# Altium schematic symbol library WWUEE_SchematicLibrary.SchLib: 52 symbols
Pins are listed as number, name and electrical type; pins without a type are passive.

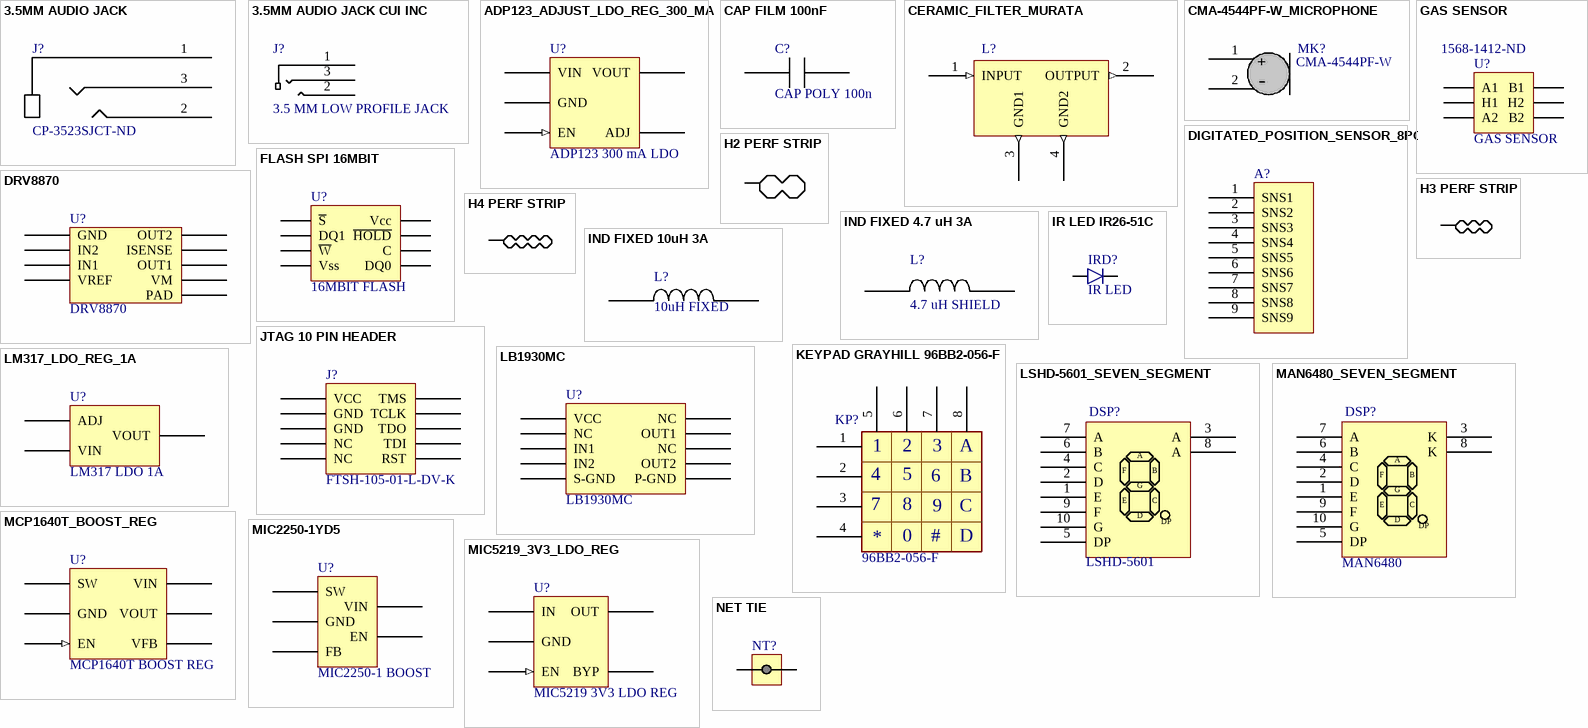
[diagram p0: symbols 3.5MM AUDIO JACK to NET TIE]

## 3.5MM AUDIO JACK
designator J?  Supplier Part Number 1: CP-3523SJCT-ND  (hidden comment: *)
SJ-3523 Surface Mount SMD 3.5mm audio jack; Supplier 1: Digi-Key
footprint SJ-3523 (3.5mm AUDIO JACK CONNECTOR)
pins: 1, 2, 3

## 3.5MM AUDIO JACK CUI INC
designator J?, comment 3.5 MM LOW PROFILE JACK
Low-profile 3.5mm jack; Supplier 1: Digi-Key; Supplier Part Number 1: CP1-3513SJCT-ND
footprint CUI 3.5mm PLUG (CP1-3513SJCT-ND)
pins: 1, 2, 3

## ADP123_ADJUST_LDO_REG_300_MA
designator U?, comment ADP123 300 mA LDO
ADP123 adjustable LDO regulator; Manufacturer: Analog Devices Inc; Manufacturer Part Number: ADP123AUJZ-R7; Regulator Topology: Positive Adjustable; Voltage - Output: 0.8 V ~ 5 V; Current - Output: 300mA; Voltage - Dropout (Typical): 0.085V @ 300mA; Number of Regulators: 1; Voltage - Input: 2.3 V ~ 5.5 V; Current - Limit (Min): 350mA; Supplier 1: Digi-Key; RoHS: RoHS Compliant; Category: Integrated Circuits (ICs); Stock 1: 6485; Pricing 1: 1=1.17, 10=1.03, 25=0.9304, 100=0.814, 250=0.71384, 500=0.63308, 1000=0.50065 (USD); Packaging: Cut Tape (CT); Operating Temperature: -40°C ~ 125°C; Mounting Type: Surface Mount; Package / Case: SOT-23-5 Thin, TSOT-23-5; Supplier Device Package: TSOT-5; ComponentLink1URL: http://www.analog.com/media/en/technical-documentation/data-sheets/ADP122_123.pdf; ComponentLink1Description: http://www.analog.com/media/en/technical-documentation/data-sheets/ADP122_123.pdf; Supplier Part Number 1: ADP123AUJZ-R7CT-ND
footprint TSOT-23 (TSOT-23 package)
pins: 1 VIN (power), 2 GND (power), 3 EN (in), 4 ADJ, 5 VOUT (power)

## CAP FILM 100nF
designator C?, comment CAP POLY 100n
CAP POLY 63V 100nF
footprint CAP FILM (5mm lead spacing film cap)
pins: 1, 2

## CERAMIC_FILTER_MURATA
designator L?, comment CFUM455G  (value not drawn)
Manufacturer: Murata; Manufacturer Part Numner: CFUM455G
footprint CERAMIC_FILTER_MURATA (CERMIC FILTER MURATA)
pins: 1 INPUT (in), 2 OUTPUT (out), 3 GND1 (out), 4 GND2 (out)
1 alternate drawing of the same symbol

## CMA-4544PF-W_MICROPHONE
designator MK?, comment CMA-4544PF-W
MIC COND ANALOG OMNI -44DB; Manufacturer: CUI Inc; Direction: Omnidirectional; Frequency Range: 20Hz ~ 20kHz; Sensitivity: -44dB ±2dB @ 94dB SPL; S/N Ratio: 60dB; Impedance: 2.2 kOhm; Voltage - Rated: 3 ~ 10V; Current - Supply: 500µA; Port Location: Top; Seal Rating: None; Shape: Circular; Supplier 1: Digi-Key; Manufacturer Part Number: CMA-4544PF-W; RoHS: RoHS Compliant; Category: Audio Products; Stock 1: 35027; Pricing 1: 1=0.96, 10=0.746, 100=0.5693, 500=0.4554, 1000=0.4048, 2500=0.33649 (USD); Packaging: Bulk; Type: Electret Condenser; Output Type: Analog; Termination: PC Pins; Size / Dimension: 9.70mm Dia; Height (Max): 4.70mm; ComponentLink1URL: http://www.cui.com/product/resource/digikeypdf/cma-4544pf-w.pdf; ComponentLink1Description: http://www.cui.com/product/resource/digikeypdf/cma-4544pf-w.pdf; Supplier Part Number 1: 102-1721-ND
footprint CMA-4544PF-W (MIC COND ANALOG OMNI -44DB)
pins: 1 POS, 2 NEG
1 alternate drawing of the same symbol
text: +; -

## DIGITATED_POSITION_SENSOR_8POS
designator A?  (no BOM)
Digitated 8 pin position sensor
footprint DIGITATED_POSITION_SENSOR_8POS (8POS DIGITATED POSITION SENSOR)
pins: 1 SNS1, 2 SNS2, 3 SNS3, 4 SNS4, 5 SNS5, 6 SNS6, 7 SNS7, 8 SNS8, 9 SNS9
1 alternate drawing of the same symbol

## DRV8870
designator U?
DRV8870 H-Bridge Driver 200 Khz PWM; Supplier 1: Digi-Key; Supplier Part Number 1: 296-42660-1-ND
footprint 8 SOIC POWER PAD (8 SOIC PowerPad for TI motor drivers)
pins: 1 GND, 2 IN2, 3 IN1, 4 VREF, 5 VM, 6 OUT1, 7 ISENSE, 8 OUT2, PAD

## FLASH SPI 16MBIT
designator U?, comment 16MBIT FLASH
16 MBIT FLASH SPI 8SOIC; Supplier 1: Digi-Key; Supplier Part Number 1: M25P16-VMN6TP CT-ND
footprint 8SOIC
pins: 1 ~{S}, 2 DQ1, 3 ~{W}, 4 Vss, 5 DQ0, 6 C, 7 ~{HOLD}, 8 Vcc

## GAS SENSOR
designator U?  Supplier Part Number 1: 1568-1412-ND
Generic Gas Sensor Footprint; Supplier 1: Digi-Key
footprint GAS SENSOR (Standard Gas Sensor Footprint)
pins: A1, A2, B1, B2, H1, H2

## H2 PERF STRIP
designator H?  (value not drawn)
footprint 2 CONTACT PERF (2 connected contacts for building breadboards)
pins: 1

## H3 PERF STRIP
designator H?  (value not drawn)
footprint 3 CONTACT PERF (3 contact conection for perf boards)
pins: 1

## H4 PERF STRIP
designator H?  (value not drawn)
footprint 4 CONTACT PERF (4 contact perf board connection)
pins: 1

## IND FIXED 4.7 uH 3A
designator L?, comment 4.7 uH SHIELD
FIXED IND 4.7UH 3A 40.3 MOHM SMD; Manufacturer: Taiyo Yuden; Manufacturer Part Number: NR6028T4R7M; Material - Core: Ferrite; Inductance: 4.7µH; Tolerance: ±20%; Current - Saturation: 2.7A; Shielding: Shielded; DC Resistance (DCR): 40.3 mOhm Max; Frequency - Test: 100kHz; Supplier 1: Digi-Key; RoHS: RoHS Compliant; Category: Inductors, Coils, Chokes; Stock 1: 65683; Pricing 1: 1=0.35, 10=0.311, 25=0.276, 50=0.2416, 100=0.2243, 250=0.207, 500=0.19666, 1000=0.1587 (USD); Packaging: Cut Tape (CT); Type: -; Current Rating: 3A; Q @ Freq: -; Frequency - Self Resonant: -; Operating Temperature: -25°C ~ 120°C; Mounting Type: Surface Mount; Package / Case: Nonstandard; Size / Dimension: 0.236" L x 0.236" W (6.00mm x 6.00mm); Height - Seated (Max): 0.110" (2.80mm); Supplier Device Package: -; ComponentLink1URL: http://ds3.yuden.co.jp/TYCOMPAS/ut/detail.do?productNo=NR6028T4R7M&fileName=NR6028T4R7M_SS&mode=specSheetDownload; ComponentLink1Description: http://ds3.yuden.co.jp/TYCOMPAS/ut/detail.do?productNo=NR6028T4R7M&fileName=NR6028T4R7M_SS&mode=specSheetDownload; Supplier Part Number 1: 587-2100-1-ND
footprint NRS6028 (Footprint for NRS6028 inductor from Yuden)
pins: 1, 2

## IND FIXED 10uH 3A
designator L?, comment 10uH FIXED
FIXED IND 10UH 3A; Supplier 1: Digi-Key; Supplier Part Number 1: 587-2001-1-ND
footprint INDUCTOR 8MM (SMT Inductor 8mm square)
pins: 1, 2

## IR LED IR26-51C
designator IRD?, comment IR LED
Side or top mount IR LED 950nm; Forward Voltage: 1.2V; Supplier 1: Digi-Key; Supplier Part Number 1: 1080-1358-1-ND
footprint IR26-51C (2SMD IR EMITTER)
pins: 1, 2

## JTAG 10 PIN HEADER
designator J?, comment FTSH-105-01-L-DV-K
10 pin 0.05" pitch header for JTAG; Supplier 1: Digi-Key; Supplier Part Number 1: FTSH-105-01-L-DV-K-TR-ND
footprint FTSH-105-01-L-DV-K (Samtec SMT 0.05" pitch header, keyed 2 rows 10 positions)
pins: 1 VCC, 2 TMS, 3 GND, 4 TCLK, 5 GND, 6 TDO, 7 NC, 8 TDI, 9 NC, 10 RST

## KEYPAD GRAYHILL 96BB2-056-F
designator KP?, comment 96BB2-056-F
KEYPAD 16 KEY BLK FRONT PNL MNT; Manufacturer: Grayhill Inc; Switch Type: Conductive Rubber; Number of Keys: 16; Matrix (Columns x Rows): 4 x 4; Output Type: Matrix; Key Type: Polymer; Legend: Telephone Format; Interchangeable Legends: No; Illumination: Non-Illuminated; Seal Rating: IP40; Supplier 1: Digi-Key; Manufacturer Part Number: 96BB2-056-F; RoHS: RoHS Compliant; Category: Switches; Stock 1: 403; Pricing 1: 1=16.6, 10=15.415, 50=13.4386, 100=11.8575, 250=11.067, 500=10.82986, 1000=10.2765 (USD); ComponentLink1URL: http://media.digikey.com/pdf/Data%20Sheets/Grayhill%20PDFs/96%20Series.pdf; ComponentLink1Description: http://media.digikey.com/pdf/Data%20Sheets/Grayhill%20PDFs/96%20Series.pdf; Supplier Part Number 1: GH5010-ND
footprint GRAYHILL_96BB2-056-F_KEYPAD (KEYPAD 16 KEY BLK FRONT PNL MNT)
pins: 1 ROW0, 2 ROW1, 3 ROW2, 4 ROW3, 5 COL0, 6 COL1, 7 COL2, 8 COL3
1 alternate drawing of the same symbol
text: A; B; 9; C; 0; #; D

## LB1930MC
designator U?
LB1930MC Low Voltage Motor Driver; Supplier 1: Arrow; Supplier Part Number 1: QGUUvdTreJWi61tHZWRPwtM2jqn8BdMCRb6Kl_RfwpM
footprint SOIC10 1MM SMT (SOIC 10 package 1mm pitch)
pins: 1 VCC (power), 2 NC, 3 IN1, 4 IN2, 5 S-GND, 6 P-GND, 7 OUT2, 8 NC, 9 OUT1, 10 NC

## LM317_LDO_REG_1A
designator U?, comment LM317 LDO 1A
LM317 REG LDO ADJ 1.5A SOT223; Manufacturer: Texas Instruments; Manufacturer Part Number: LM317DCYR; Regulator Topology: Positive Adjustable; Voltage - Output: 1.25 V ~ 37 V; Number of Regulators: 1; Voltage - Input: 4.2 V ~ 40 V; Supplier 1: Digi-Key; RoHS: RoHS Compliant; Category: Integrated Circuits (ICs); Stock 1: 97500; Pricing 1: 2500=0.27, 10000=0.26, 25000=0.25 (USD); Packaging: Tape & Reel (TR); Current - Output: 1.5A; Voltage - Dropout (Typical): -; Current - Limit (Min): -; Operating Temperature: 0°C ~ 125°C; Mounting Type: Surface Mount; Package / Case: TO-261-4, TO-261AA; Supplier Device Package: SOT-223-4; ComponentLink1URL: http://www.ti.com/lit/ds/symlink/lm317.pdf; ComponentLink1Description: http://www.ti.com/lit/ds/symlink/lm317.pdf; Supplier Part Number 1: 296-12602-2-ND
footprint SOT223-3L (Long Pad SOT 223)
pins: 1 ADJ, 2 VOUT (power), 3 VIN (power)

## LSHD-5601_SEVEN_SEGMENT
designator DSP?, comment LSHD-5601
SEVEN SEGMENT DISPLAY; Manufacturer: Lite-On Inc; Number of Characters: 1; Digit/Alpha Size: 0.56" (14.22mm); Display Type: 7-Segment; Common Pin: Common Anode; Voltage - Forward (Vf) (Typ): 2.1V; Current - Test: 20mA; Millicandela Rating: 2.4mcd; Wavelength - Peak: 565nm; Power Dissipation (Max): 75mW; Supplier 1: Digi-Key; Manufacturer Part Number: LSHD-5601; RoHS: RoHS Compliant; Category: Optoelectronics; Stock 1: 5376; Pricing 1: 1=1.17, 10=0.951, 100=0.6581, 250=0.585, 500=0.49726, 1000=0.4095, 2500=0.39 (USD); Size / Dimension: 0.673" H x 0.488" W x 0.315" D (17.10mm x 12.40mm x 8.00mm); Color: Green; Package / Case: 10-DIP (0.600", 15.24mm); ComponentLink1URL: http://media.digikey.com/pdf/Data%20Sheets/Lite-On%20PDFs/LSHD-5601.pdf; ComponentLink1Description: http://media.digikey.com/pdf/Data%20Sheets/Lite-On%20PDFs/LSHD-5601.pdf; Supplier Part Number 1: 160-1575-5-ND
footprint MAN6480_SEVEN_SEGMENT (MAN6480)
pins: 1 E, 2 D, 3 A, 4 C, 5 DP, 6 B, 7 A, 8 A, 9 F, 10 G
1 alternate drawing of the same symbol

## MAN6480_SEVEN_SEGMENT
designator DSP?, comment MAN6480
LED 7-SEG SGL CC GRN RHDP .56"; Manufacturer: Everlight Electronics Co Ltd; Number of Characters: 1; Digit/Alpha Size: 0.56" (14.22mm); Display Type: 7-Segment; Common Pin: Common Cathode; Voltage - Forward (Vf) (Typ): 2.1V; Current - Test: 20mA; Millicandela Rating: 2.2mcd; Wavelength - Peak: 565nm; Power Dissipation (Max): 600mW; Supplier 1: Digi-Key; Manufacturer Part Number: MAN6480; RoHS: RoHS Compliant; Category: Optoelectronics; Stock 1: 0; Pricing 1: 400=0.93565 (USD); Size / Dimension: 0.750" H x 0.480" W x 0.315" D (19.05mm x 12.20mm x 8.00mm); Color: Green; Package / Case: 10-DIP (0.600", 15.24mm); ComponentLink1URL: http://media.digikey.com/pdf/Data%20Sheets/Everlight%20PDFs/MAN6400%20Series.pdf; ComponentLink1Description: http://media.digikey.com/pdf/Data%20Sheets/Everlight%20PDFs/MAN6400%20Series.pdf; Supplier Part Number 1: MAN6480EL-ND
footprint MAN6480_SEVEN_SEGMENT (MAN6480)
pins: 1 E, 2 D, 3 K, 4 C, 5 DP, 6 B, 7 A, 8 K, 9 F, 10 G
1 alternate drawing of the same symbol

## MCP1640T_BOOST_REG
designator U?, comment MCP1640T BOOST REG
IC REG BST ADJ 0.1A SYNC SOT23-6; Manufacturer: Microchip Technology; Manufacturer Part Number: MCP1640T-I/CHY; Function: Step-Up; Output Configuration: Positive; Output Type: Adjustable; Number of Outputs: 1; Voltage - Input (Min): 0.8V; Voltage - Input (Max): 5.5V; Voltage - Output (Min/Fixed): 2V; Current - Output: 100mA; Frequency - Switching: 500kHz; Synchronous Rectifier: Yes; Supplier 1: Digi-Key; RoHS: RoHS Compliant; Category: Integrated Circuits (ICs); Stock 1: 11111; Pricing 1: 1=0.68, 10=0.57, 25=0.48, 100=0.44 (USD); Packaging: Cut Tape (CT); Topology: Boost; Voltage - Output (Max): 5.5V; Operating Temperature: -40°C ~ 125°C (TJ); Mounting Type: Surface Mount; Package / Case: SOT-23-6; Supplier Device Package: SOT-23-6; ComponentLink1URL: http://www.microchip.com/mymicrochip/filehandler.aspx?ddocname=en547085; ComponentLink1Description: http://www.microchip.com/mymicrochip/filehandler.aspx?ddocname=en547085; Supplier Part Number 1: MCP1640T-I/CHYCT-ND
footprint SOT-23-6 (SOT-23 6 pin standard footprint)
pins: 1 SW (power), 2 GND (power), 3 EN (in), 4 VFB, 5 VOUT (power), 6 VIN (power)

## MIC2250-1YD5
designator U?, comment MIC2250-1 BOOST
MIC2250-1 Boost Regulator 2.5Mhz; Supplier 1: Digi-Key; Supplier Part Number 1: 1611-MIC2250-1YD5-CT-ND
footprint SOT23-5 (SOT23-5 standard package)
pins: 1 SW, 2 GND, 3 FB, 4 EN, 5 VIN

## MIC5219_3V3_LDO_REG
designator U?, comment MIC5219 3V3 LDO REG
IC REG LDO 3.3V 0.5A (350 mV DROP) SOT23-5; Manufacturer: Micrel Inc; Manufacturer Part Number: MIC5219-3.3YM5 TR; Regulator Topology: Positive Fixed; Current - Output: 500mA; Voltage - Dropout (Typical): 0.35V @ 500mA; Number of Regulators: 1; Voltage - Input: Up to 12V; Supplier 1: Digi-Key; RoHS: RoHS Compliant; Category: Integrated Circuits (ICs); Stock 1: 18892; Pricing 1: 1=1.82, 10=1.642, 25=1.4708, 100=1.3224, 250=1.1742, 500=1.026, 1000=0.8493 (USD); Packaging: Cut Tape (CT); Voltage - Output: 3.3V; Current - Limit (Min): -; Operating Temperature: -40°C ~ 125°C; Mounting Type: Surface Mount; Package / Case: SC-74A, SOT-753; Supplier Device Package: SOT-23-5; ComponentLink1URL: http://www.micrel.com/_PDF/mic5219.pdf; ComponentLink1Description: http://www.micrel.com/_PDF/mic5219.pdf; Supplier Part Number 1: 576-1281-1-ND
footprint SOT23-5 (SOT23-5 standard package)
pins: 1 IN (power), 2 GND (power), 3 EN (in), 4 BYP, 5 OUT (power)

## NET TIE
designator NT?, comment NET TIE 0603  (value not drawn)  (net tie, no BOM)
footprint NetTie0603 (Net Tie in 0603 land patter)
pins: 1, 2
1 alternate drawing of the same symbol

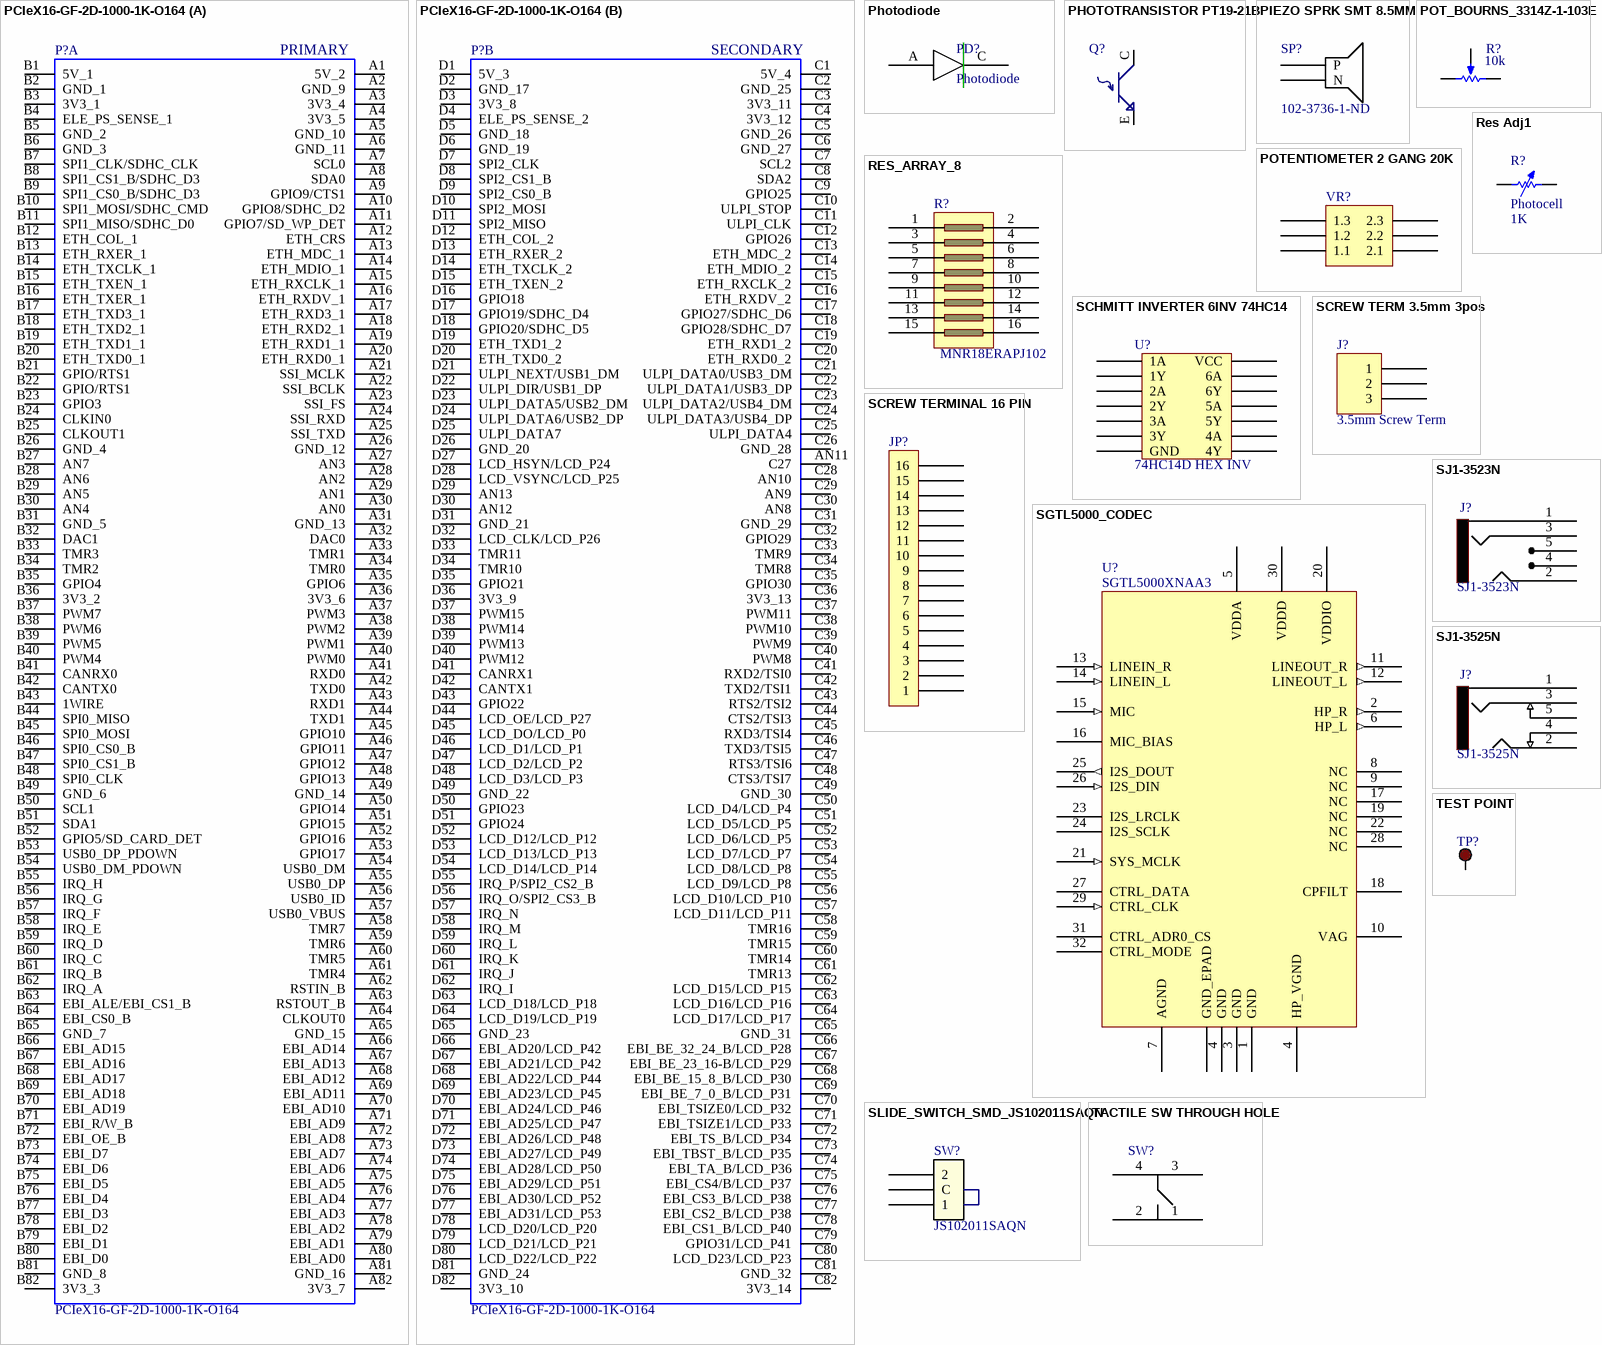
[diagram p1: symbols PCIeX16-GF-2D-1000-1K-O164 to TEST POINT]

## PCIeX16-GF-2D-1000-1K-O164
designator P?  (no BOM)
Golden finger, PCIeX16, Dual, Opposite, Pitch 1mm, 164-Position; Package Version: rev2.0, Apr-2007; Mating Connector: Molex-87715-9305; ClassName: Edge Connector; Publisher: Altium; Package Reference: GF-2D-1000-1K-O164; Datasheet Version: rev2.0, Apr-2007
footprint TowerModule-PCIeX16-GF-2D-1000-1K-O164 (Freescale Tower Module,Golden finger, PCIeX16, Dual, Opposite, Pitch 1mm, 164-Position)
part A pins: A1 5V_2, A2 GND_9, A3 3V3_4, A4 3V3_5, A5 GND_10, A6 GND_11, A7 SCL0, A8 SDA0, A9 GPIO9/CTS1, A10 GPIO8/SDHC_D2, A11 GPIO7/SD_WP_DET, A12 ETH_CRS, A13 ETH_MDC_1, A14 ETH_MDIO_1, A15 ETH_RXCLK_1, A16 ETH_RXDV_1, A17 ETH_RXD3_1, A18 ETH_RXD2_1, A19 ETH_RXD1_1, A20 ETH_RXD0_1, A21 SSI_MCLK, A22 SSI_BCLK, A23 SSI_FS, A24 SSI_RXD, A25 SSI_TXD, A26 GND_12, A27 AN3, A28 AN2, A29 AN1, A30 AN0, A31 GND_13, A32 DAC0, A33 TMR1, A34 TMR0, A35 GPIO6, A36 3V3_6, A37 PWM3, A38 PWM2, A39 PWM1, A40 PWM0, A41 RXD0, A42 TXD0, A43 RXD1, A44 TXD1, A45 GPIO10, A46 GPIO11, A47 GPIO12, A48 GPIO13, A49 GND_14, A50 GPIO14, A51 GPIO15, A52 GPIO16, A53 GPIO17, A54 USB0_DM, A55 USB0_DP, A56 USB0_ID, A57 USB0_VBUS, A58 TMR7, A59 TMR6, A60 TMR5, A61 TMR4, A62 RSTIN_B, A63 RSTOUT_B, A64 CLKOUT0, A65 GND_15, A66 EBI_AD14, A67 EBI_AD13, A68 EBI_AD12, A69 EBI_AD11, A70 EBI_AD10, A71 EBI_AD9, A72 EBI_AD8, A73 EBI_AD7, A74 EBI_AD6, A75 EBI_AD5, A76 EBI_AD4, A77 EBI_AD3, A78 EBI_AD2, A79 EBI_AD1, A80 EBI_AD0, A81 GND_16, A82 3V3_7, B1 5V_1, B2 GND_1, B3 3V3_1, B4 ELE_PS_SENSE_1, B5 GND_2, B6 GND_3, B7 SPI1_CLK/SDHC_CLK, B8 SPI1_CS1_B/SDHC_D3, B9 SPI1_CS0_B/SDHC_D3, B10 SPI1_MOSI/SDHC_CMD, B11 SPI1_MISO/SDHC_D0, B12 ETH_COL_1, B13 ETH_RXER_1, B14 ETH_TXCLK_1, B15 ETH_TXEN_1, B16 ETH_TXER_1, B17 ETH_TXD3_1, B18 ETH_TXD2_1, B19 ETH_TXD1_1, B20 ETH_TXD0_1, B21 GPIO/RTS1, B22 GPIO/RTS1, B23 GPIO3, B24 CLKIN0, B25 CLKOUT1, B26 GND_4, B27 AN7, B28 AN6, B29 AN5, B30 AN4, B31 GND_5, B32 DAC1, B33 TMR3, B34 TMR2, B35 GPIO4, B36 3V3_2, B37 PWM7, B38 PWM6, B39 PWM5, B40 PWM4, B41 CANRX0, B42 CANTX0, B43 1WIRE, B44 SPI0_MISO, B45 SPI0_MOSI, B46 SPI0_CS0_B, B47 SPI0_CS1_B, B48 SPI0_CLK, B49 GND_6, B50 SCL1, B51 SDA1, B52 GPIO5/SD_CARD_DET, B53 USB0_DP_PDOWN, B54 USB0_DM_PDOWN, B55 IRQ_H, B56 IRQ_G, B57 IRQ_F, B58 IRQ_E, B59 IRQ_D, B60 IRQ_C, B61 IRQ_B, B62 IRQ_A, B63 EBI_ALE/EBI_CS1_B, B64 EBI_CS0_B, B65 GND_7, B66 EBI_AD15, B67 EBI_AD16, B68 EBI_AD17, B69 EBI_AD18, B70 EBI_AD19, B71 EBI_R/W_B, B72 EBI_OE_B, B73 EBI_D7, B74 EBI_D6, B75 EBI_D5, B76 EBI_D4, B77 EBI_D3, B78 EBI_D2, B79 EBI_D1, B80 EBI_D0, B81 GND_8, B82 3V3_3
part B pins: AN11 C27, C1 5V_4, C2 GND_25, C3 3V3_11, C4 3V3_12, C5 GND_26, C6 GND_27, C7 SCL2, C8 SDA2, C9 GPIO25, C10 ULPI_STOP, C11 ULPI_CLK, C12 GPIO26, C13 ETH_MDC_2, C14 ETH_MDIO_2, C15 ETH_RXCLK_2, C16 ETH_RXDV_2, C17 GPIO27/SDHC_D6, C18 GPIO28/SDHC_D7, C19 ETH_RXD1_2, C20 ETH_RXD0_2, C21 ULPI_DATA0/USB3_DM, C22 ULPI_DATA1/USB3_DP, C23 ULPI_DATA2/USB4_DM, C24 ULPI_DATA3/USB4_DP, C25 ULPI_DATA4, C26 GND_28, C28 AN10, C29 AN9, C30 AN8, C31 GND_29, C32 GPIO29, C33 TMR9, C34 TMR8, C35 GPIO30, C36 3V3_13, C37 PWM11, C38 PWM10, C39 PWM9, C40 PWM8, C41 RXD2/TSI0, C42 TXD2/TSI1, C43 RTS2/TSI2, C44 CTS2/TSI3, C45 RXD3/TSI4, C46 TXD3/TSI5, C47 RTS3/TSI6, C48 CTS3/TSI7, C49 GND_30, C50 LCD_D4/LCD_P4, C51 LCD_D5/LCD_P5, C52 LCD_D6/LCD_P5, C53 LCD_D7/LCD_P7, C54 LCD_D8/LCD_P8, C55 LCD_D9/LCD_P8, C56 LCD_D10/LCD_P10, C57 LCD_D11/LCD_P11, C58 TMR16, C59 TMR15, C60 TMR14, C61 TMR13, C62 LCD_D15/LCD_P15, C63 LCD_D16/LCD_P16, C64 LCD_D17/LCD_P17, C65 GND_31, C66 EBI_BE_32_24_B/LCD_P28, C67 EBI_BE_23_16-B/LCD_P29, C68 EBI_BE_15_8_B/LCD_P30, C69 EBI_BE_7_0_B/LCD_P31, C70 EBI_TSIZE0/LCD_P32, C71 EBI_TSIZE1/LCD_P33, C72 EBI_TS_B/LCD_P34, C73 EBI_TBST_B/LCD_P35, C74 EBI_TA_B/LCD_P36, C75 EBI_CS4/B/LCD_P37, C76 EBI_CS3_B/LCD_P38, C77 EBI_CS2_B/LCD_P38, C78 EBI_CS1_B/LCD_P40, C79 GPIO31/LCD_P41, C80 LCD_D23/LCD_P23, C81 GND_32, C82 3V3_14, D1 5V_3, D2 GND_17, D3 3V3_8, D4 ELE_PS_SENSE_2, D5 GND_18, D6 GND_19, D7 SPI2_CLK, D8 SPI2_CS1_B, D9 SPI2_CS0_B, D10 SPI2_MOSI, D11 SPI2_MISO, D12 ETH_COL_2, D13 ETH_RXER_2, D14 ETH_TXCLK_2, D15 ETH_TXEN_2, D16 GPIO18, D17 GPIO19/SDHC_D4, D18 GPIO20/SDHC_D5, D19 ETH_TXD1_2, D20 ETH_TXD0_2, D21 ULPI_NEXT/USB1_DM, D22 ULPI_DIR/USB1_DP, D23 ULPI_DATA5/USB2_DM, D24 ULPI_DATA6/USB2_DP, D25 ULPI_DATA7, D26 GND_20, D27 LCD_HSYN/LCD_P24, D28 LCD_VSYNC/LCD_P25, D29 AN13, D30 AN12, D31 GND_21, D32 LCD_CLK/LCD_P26, D33 TMR11, D34 TMR10, D35 GPIO21, D36 3V3_9, D37 PWM15, D38 PWM14, D39 PWM13, D40 PWM12, D41 CANRX1, D42 CANTX1, D43 GPIO22, D44 LCD_OE/LCD_P27, D45 LCD_DO/LCD_P0, D46 LCD_D1/LCD_P1, D47 LCD_D2/LCD_P2, D48 LCD_D3/LCD_P3, D49 GND_22, D50 GPIO23, D51 GPIO24, D52 LCD_D12/LCD_P12, D53 LCD_D13/LCD_P13, D54 LCD_D14/LCD_P14, D55 IRQ_P/SPI2_CS2_B, D56 IRQ_O/SPI2_CS3_B, D57 IRQ_N, D58 IRQ_M, D59 IRQ_L, D60 IRQ_K, D61 IRQ_J, D62 IRQ_I, D63 LCD_D18/LCD_P18, D64 LCD_D19/LCD_P19, D65 GND_23, D66 EBI_AD20/LCD_P42, D67 EBI_AD21/LCD_P42, D68 EBI_AD22/LCD_P44, D69 EBI_AD23/LCD_P45, D70 EBI_AD24/LCD_P46, D71 EBI_AD25/LCD_P47, D72 EBI_AD26/LCD_P48, D73 EBI_AD27/LCD_P49, D74 EBI_AD28/LCD_P50, D75 EBI_AD29/LCD_P51, D76 EBI_AD30/LCD_P52, D77 EBI_AD31/LCD_P53, D78 LCD_D20/LCD_P20, D79 LCD_D21/LCD_P21, D80 LCD_D22/LCD_P22, D81 GND_24, D82 3V3_10
part A text: PRIMARY
part B text: SECONDARY

## Photodiode
designator PD?
Vfw: 0.8 V; Responsivity: 60 mA/W; Supplier 1: Digi-Key; Supplier Part Number 1: SD019-141-411-BCT-ND
footprint PHOTODIODE_0805 (0805 Photodiode)
pins: A, C

## PHOTOTRANSISTOR PT19-21B
designator Q?, comment PT19-21B  (value not drawn)
Phototransistor Mini 20mA; Supplier 1: Digi-Key; Supplier Part Number 1: 1080-1383-1-ND
footprint PT19-21B (Small Package Phototransistor); pin to pad C>2 E>1
pins: C 2, E 1

## PIEZO SPRK SMT 8.5MM
designator SP?  Supplier Part Number 1: 102-3736-1-ND  (hidden comment: *)
8.5mm SMT Piezo speaker 2 kHz; Supplier 1: Digi-Key
footprint CMT85-30S (8.5mm 2kHz Buzzer SMT)
pins: N, P

## POT_BOURNS_3314Z-1-103E
designator R?, comment value 10k  (hidden comment: 3314Z-1-103E)
TRIMMER 10K OHM 0.25W SMD; Manufacturer: Bourns Inc.; Power: 0.125 W; Case-Metric: 2012; Tolerance: 20 %; Case-EIA: 0805; Power (Watts): 0.25W, 1/4W; Temperature Coefficient: ±100ppm/°C; Number of Turns: Single; Adjustment Type: Side Adjustment; Resistive Material: Cermet; Technology: SMT; Supplier 1: Digi-Key; Manufacturer Part Number: 3314Z-1-103E; RoHS: RoHS Compliant; Category: Potentiometers, Variable Resistors; Stock 1: 1828; Pricing 1: 1=2.28, 10=2.006, 25=1.802, 50=1.7292, 100=1.6632 (USD); Packaging: Cut Tape (CT); Resistance (Ohms): 10k; Mounting Type: Surface Mount; Termination Style: J Lead; Size / Dimension: Square - 0.219" L x 0.197" W x 0.227" H (5.56mm x 5.01mm x 5.76mm); ComponentLink1URL: http://www.bourns.com/data/global/pdfs/3314.pdf; ComponentLink1Description: http://www.bourns.com/data/global/pdfs/3314.pdf; Supplier Part Number 1: 3314Z-103ECT-ND
footprint POT_BOURNS_3314Z-1-***E (POT TRIMMER SIDE ADJUST, 0.25W, SMD)
pins: 1 CCW, 2 WIPER, 3 CW
1 alternate drawing of the same symbol

## POTENTIOMETER 2 GANG 20K
designator VR?, comment Bournes Dual Gang  (value not drawn)
Bournes Logarithmic Dual Gang Pot 20k; Supplier 1: Digi-Key; Supplier Part Number 1: PTD902-2015F-A103-ND
footprint BOURNES PTD90 DUAL GANG POT (dual gang potentiometer, right angle, through hole, Bournes)
pins: 1.1, 1.2, 1.3, 2.1, 2.2, 2.3

## Res Adj1
designator R?, comment Photocell  value 1K
Variable Resistor; Set Position: 0.5; Published: 8-Jun-2000; LatestRevisionDate: 17-Jul-2002; LatestRevisionNote: Re-released for DXP Platform.; PackageReference: AXIAL-0.7; Publisher: Altium Limited; PackageDescription: Axial Device, Thru-Hole; 2 Leads; 0.7 in Pin Spacing
footprint Photocell
simulation model VRES (Variable Resistor)
signal-integrity model Res Adj
pins: 1, 2

## RES_ARRAY_8
designator R?, comment MNR18ERAPJ102
RES ARRAY 1K OHM 8 RES 1606; Manufacturer: Rohm Semiconductor; Tolerance: ±5%; Number of Resistors: 8; Power Per Element: 62.5mW; Temperature Coefficient: ±200ppm/°C; Supplier 1: Digi-Key; Manufacturer Part Number: MNR18ERAPJ102; RoHS: RoHS Compliant; Stock 1: 10732; Pricing 1: 1=0.21, 10=0.174, 25=0.1268, 100=0.0681, 250=0.05228, 500=0.04118, 1000=0.02851 (USD); Packaging: Digi-Reel®; Resistance (Ohms): 1k; Number of Pins: 16; Mounting Type: Surface Mount; Package / Case: 1606, Convex, Long Side Terminals; Supplier Device Package: -; Size / Dimension: 0.157" L x 0.063" W (4.00mm x 1.60mm); Height: 0.020" (0.50mm); Operating Temperature: -55°C ~ 155°C; ComponentLink1URL: http://rohmfs.rohm.com/en/products/databook/datasheet/passive/resistor/chip_resistor_network/mnr_g.pdf; ComponentLink1Description: http://rohmfs.rohm.com/en/products/databook/datasheet/passive/resistor/chip_resistor_network/mnr_g.pdf; Supplier Part Number 1: RHM1620DKR-ND
footprint MNR18ERAPJ100_RES_ARRAY (MNR18ERAPJ100 RESISTOR ARRAY)
pins: 1, 2, 3, 4, 5, 6, 7, 8, 9, 10, 11, 12, 13, 14, 15, 16
1 alternate drawing of the same symbol

## SCHMITT INVERTER 6INV 74HC14
designator U?, comment 74HC14D HEX INV
74HC14D Schmitt triggered inverter; Supplier 1: Digi-Key; Supplier Part Number 1: 568-3953-5-ND
footprint 14-SOIC (14-SOIC 74HC14)
pins: 1 1A, 2 1Y, 3 2A, 4 2Y, 5 3A, 6 3Y, 7 GND, 8 4Y, 9 4A, 10 5Y, 11 5A, 12 6Y, 13 6A, 14 VCC

## SCREW TERM 3.5mm 3pos
designator J?, comment 3.5mm Screw Term
Supplier 1: Digi-Key; Supplier Part Number 1: ED2741-ND
footprint SCREW TERM 3 PIN 3.5mm (3 pin 3.5mm screw header)
pins: 1, 2, 3

## SCREW TERMINAL 16 PIN
designator JP?, comment 16 PIN  (value not drawn)
3.5mm spacing 16 pin philips screw terminal; Supplier 1: Digi-Key; Supplier Part Number 1: ED2739-ND
footprint SCREW TERMINAL 16 PIN (On-Shore 16 pin 3.5mm screw terminal)
pins: 1, 2, 3, 4, 5, 6, 7, 8, 9, 10, 11, 12, 13, 14, 15, 16

## SGTL5000_CODEC
designator U?, comment SGTL5000XNAA3
IC AUDIO CODEC STEREO 32-QFN; Manufacturer: Freescale Semiconductor; Data Interface: I²C, Serial, SPI™; Number of ADCs / DACs: 1 / 1; Sigma Delta: No; S/N Ratio, ADCs / DACs (db) Typ: 90 / 100; Voltage - Supply, Analog: 1.62 V ~ 3.6 V; Voltage - Supply, Digital: 1.1 V ~ 2 V, 1.62 V ~ 3.6 V; Supplier 1: Digi-Key; Manufacturer Part Number: SGTL5000XNAA3; RoHS: RoHS Compliant; Category: Integrated Circuits (ICs); Stock 1: 4664; Pricing 1: 1=2.45, 10=2.312, 25=2.176, 100=1.768 (USD); Packaging: Tray; Type: Stereo Audio; Resolution (Bits): -; Dynamic Range, ADCs / DACs (db) Typ: -; Operating Temperature: -40°C ~ 85°C; Mounting Type: Surface Mount; Package / Case: 32-VFQFN Exposed Pad; Supplier Device Package: 32-QFN Exposed Pad (5x5); ComponentLink1URL: http://cache.freescale.com/files/analog/doc/data_sheet/SGTL5000.pdf; ComponentLink1Description: http://cache.freescale.com/files/analog/doc/data_sheet/SGTL5000.pdf; Supplier Part Number 1: SGTL5000XNAA3-ND
footprint QFN50P500X500X90_HS-33M (QFN, 32-Leads, Body 5.00x5.00mm, Pitch 0.50mm, Thermal Pad 3.40x3.40mm, IPC Low Density)
pins: 1 GND, 2 HP_R (out), 3 GND, 4 HP_VGND, 4 GND, 5 VDDA (power), 6 HP_L (out), 7 AGND, 8 NC, 9 NC, 10 VAG, 11 LINEOUT_R (out), 12 LINEOUT_L (out), 13 LINEIN_R (in), 14 LINEIN_L (in), 15 MIC (in), 16 MIC_BIAS, 17 NC, 18 CPFILT, 19 NC, 20 VDDIO (power), 21 SYS_MCLK (in), 22 NC, 23 I2S_LRCLK, 24 I2S_SCLK, 25 I2S_DOUT (out), 26 I2S_DIN (in), 27 CTRL_DATA, 28 NC, 29 CTRL_CLK (in), 30 VDDD (power), 31 CTRL_ADR0_CS, 32 CTRL_MODE, 33 GND_EPAD
1 alternate drawing of the same symbol

## SJ1-3523N
designator J?
CONN JACK STEREO R/A 3PIN 3.5MM; Manufacturer: CUI Inc; Connector Type: Phone Jack; Gender: Female; Plug/Mating Plug Diameter: 3.50mm (0.141", 1/8", Mini Plug) - Headphone; Number of Positions/Contacts: 3 Conductors, 3 Contacts; Internal Switch(s): Does Not Contain Switch; Shielding: Unshielded; Color - Contact: Silver; Voltage - Rated: 12VDC; Current Rating: 1A; Supplier 1: Digi-Key; Manufacturer Part Number: SJ1-3523N; RoHS: RoHS Compliant; Category: Connectors, Interconnects; Stock 1: 69695; Pricing 1: 1=0.97, 10=0.749, 100=0.5715, 500=0.4572, 1000=0.4064, 2500=0.33782 (USD); Packaging: Bulk; Signal Lines: Stereo; Mounting Type: Through Hole, Right Angle; Termination: Solder; Features: -; Contact Material: Copper Alloy; Contact Material - Plating: Tin; Housing Material: Plastic; Housing Color: Black; Operating Temperature: -25°C ~ 85°C; ComponentLink1URL: http://www.cui.com/product/resource/digikeypdf/sj1-352xn_series.pdf; ComponentLink1Description: http://www.cui.com/product/resource/digikeypdf/sj1-352xn_series.pdf; Supplier Part Number 1: CP1-3523N-ND
footprint SJ1-3525N_3.5MM_AUDIO_JACK (AUDIO JACK, 3.5MM, THROUGH HOLE)
pins: 1 SLEEVE, 2 TIP, 3 RING, 4 TIP_SWITCH, 5 RING_SWITCH
1 alternate drawing of the same symbol

## SJ1-3525N
designator J?
CONN JACK STEREO R/A 5PIN 3.5MM; Manufacturer: CUI Inc; Connector Type: Phone Jack; Gender: Female; Plug/Mating Plug Diameter: 3.50mm (0.141", 1/8", Mini Plug) - Headphone; Number of Positions/Contacts: 3 Conductors, 5 Contacts; Internal Switch(s): Two Switches; Shielding: Unshielded; Color - Contact: Silver; Voltage - Rated: 12VDC; Current Rating: 1A; Supplier 1: Digi-Key; Manufacturer Part Number: SJ1-3525N; RoHS: RoHS Compliant; Category: Connectors, Interconnects; Stock 1: 34268; Pricing 1: 1=1, 10=0.773, 100=0.5895, 500=0.4716, 1000=0.4192, 2500=0.34846 (USD); Packaging: Bulk; Signal Lines: Stereo; Mounting Type: Through Hole, Right Angle; Termination: Solder; Features: -; Contact Material: Copper Alloy; Contact Material - Plating: Tin; Housing Material: Plastic; Housing Color: Black; Operating Temperature: -25°C ~ 85°C; ComponentLink1URL: http://www.cui.com/product/resource/digikeypdf/sj1-352xn_series.pdf; ComponentLink1Description: http://www.cui.com/product/resource/digikeypdf/sj1-352xn_series.pdf; Supplier Part Number 1: CP1-3525N-ND
footprint SJ1-3525N_3.5MM_AUDIO_JACK (AUDIO JACK, 3.5MM, THROUGH HOLE)
pins: 1 SLEEVE, 2 TIP, 3 RING, 4 TIP_SWITCH, 5 RING_SWITCH
1 alternate drawing of the same symbol

## SLIDE_SWITCH_SMD_JS102011SAQN
designator SW?, comment Manufacturer Part Number: JS102011SAQN  (hidden comment: Slide Switch)
Horizontal SMT Slide Switch JS102011SAQN; Manufacturer: C&K Components; Circuit: SPDT; Contact Timing: Not Specified; Switch Function: On-On; Current Rating: 300mA (DC); Voltage Rating - DC: 6V; Actuator Type: Standard; Actuator Length: 2.00mm; Actuator Material: Polyamide (PA46), Nylon 4/6; Electrical Life: 5,000 Cycles; Supplier 1: Digi-Key; RoHS: RoHS Compliant; Category: Switches; Stock 1: 12968; Pricing 1: 1=0.53, 10=0.512, 25=0.5016, 50=0.4482, 100=0.4268, 250=0.41612, 500=0.35212 (USD); Packaging: Cut Tape (CT); Voltage Rating - AC: -; Contact Material: Copper Alloy; Contact Finish: Silver; Mounting Type: Surface Mount, Right Angle; Termination Style: Gull Wing; Features: -; Switch Travel: 2.00mm; Operating Temperature: -40°C ~ 85°C; Mechanical Life: -; Operating Force: -; ComponentLink1URL: http://www.ck-components.com/index.php?module=media&action=Display&cmpref=14398&lang=en&width=&height=&format=&alt=; ComponentLink1Description: http://www.ck-components.com/index.php?module=media&action=Display&cmpref=14398&lang=en&width=&height=&format=&alt=; Supplier Part Number 1: 401-1999-1-ND
footprint JS102011SAQN (SMT slide switch)
pins: 1, 2 C, 3 2

## TACTILE SW THROUGH HOLE
designator SW?  (value not drawn)
6MM TACTILE THROUGH HOLE; Maximum Current: 50 mA; Supplier 1: Digi-Key; Supplier Part Number 1: SW400-ND
footprint TACTILE_SW THROUGH HOLE (OMRON B3F 6MM THROUGH HOLE)
pins: 1, 2, 3, 4

## TEST POINT
designator TP?, comment 5001  (value not drawn)
TEST POINT PC MINI .040"D BLACK; Manufacturer: Keystone Electronics; Supplier 1: Digi-Key; Manufacturer Part Number: 5001; RoHS: RoHS Compliant; Category: Test and Measurement; Stock 1: 7538; Pricing 1: 1=0.34, 10=0.315, 50=0.2296, 100=0.2206, 250=0.19812, 500=0.1891, 1000=0.15759, 2500=0.14408, 5000=0.13508 (USD); Packaging: Bulk; Type: PC Test Point, Miniature; Terminal: 0.010" x 0.020" (0.25mm x 0.51mm) Phosphor Bronze Wire, Silver Plated; Mounting Type: 0.040" (1.02mm) Hole Diameter; Material: Base, Nylon 46, UL 94V-0; Color: Black; ComponentLink1URL: http://www.keyelco.com/product-pdf.cfm?p=1310; ComponentLink1Description: http://www.keyelco.com/product-pdf.cfm?p=1310; Supplier Part Number 1: 5001K-ND
3D model TEST_POINT_BLK_Keystone_5001 (PCB3D Model)
footprint Keystone_5001 (TEST POINT PC MINI .040"D BLACK)
pins: 1 TP
1 alternate drawing of the same symbol

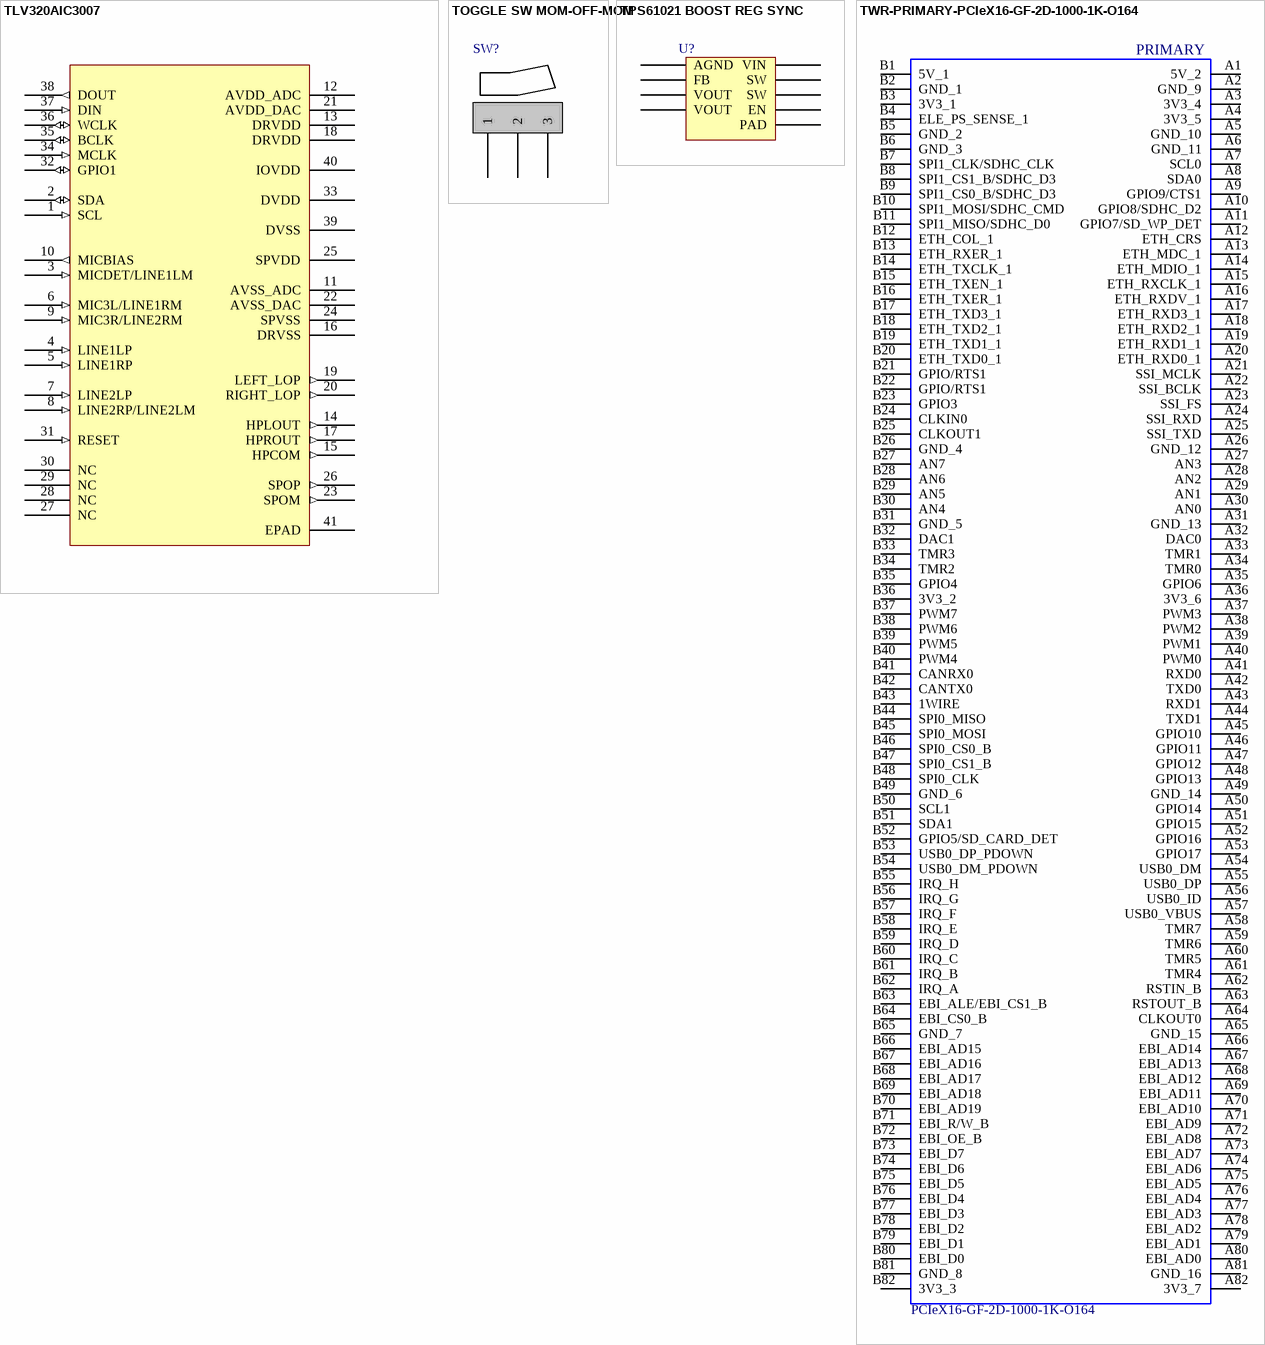
[diagram p2: symbols TLV320AIC3007 to TWR-PRIMARY-PCIeX16-GF-2D-1000-1K-O164]

## TLV320AIC3007
designator U?
IC STEREO AUDIO CODEC LP 40-QFN; Manufacturer: Texas Instruments; Manufacturer Part Number: TLV320AIC3007IRSBT; Data Interface: I²C, Serial; Resolution (Bits): 24 b; Number of ADCs / DACs: 2 / 2; Sigma Delta: Yes; S/N Ratio, ADCs / DACs (db) Typ: 87 / 93; Dynamic Range, ADCs / DACs (db) Typ: 86 / 92; Voltage - Supply, Analog: 2.7 V ~ 3.6 V; Voltage - Supply, Digital: 1.525 V ~ 1.95 V; Supplier 1: Digi-Key; RoHS: RoHS Compliant; Category: Integrated Circuits (ICs); Stock 1: 323; Pricing 1: 1=7, 10=6.269, 25=5.6376, 100=5.1273 (USD); Packaging: Cut Tape (CT); Type: Stereo Audio; Operating Temperature: -40°C ~ 85°C; Mounting Type: Surface Mount; Package / Case: 40-WQFN Exposed Pad; Supplier Device Package: 40-WQFN; ComponentLink1URL: http://www.ti.com/lit/ds/symlink/tlv320aic3007.pdf; ComponentLink1Description: http://www.ti.com/lit/ds/symlink/tlv320aic3007.pdf; Supplier Part Number 1: 296-24373-1-ND
footprint QFN40P500X500X80_HS-41M (QFN, 40-Leads, Body 5.00x5.00mm, Pitch 0.40mm, Thermal Pad 3.50x3.50mm, IPC Low Density)
pins: 1 SCL (in), 2 SDA (io), 3 MICDET/LINE1LM (in), 4 LINE1LP (in), 5 LINE1RP (in), 6 MIC3L/LINE1RM (in), 7 LINE2LP (in), 8 LINE2RP/LINE2LM (in), 9 MIC3R/LINE2RM (in), 10 MICBIAS (out), 11 AVSS_ADC (power), 12 AVDD_ADC (power), 13 DRVDD (power), 14 HPLOUT (out), 15 HPCOM (out), 16 DRVSS (power), 17 HPROUT (out), 18 DRVDD (power), 19 LEFT_LOP (out), 20 RIGHT_LOP (out), 21 AVDD_DAC (power), 22 AVSS_DAC (power), 23 SPOM (out), 24 SPVSS (power), 25 SPVDD (power), 26 SPOP (out), 27 NC, 28 NC, 29 NC, 30 NC, 31 RESET (in), 32 GPIO1 (io), 33 DVDD (power), 34 MCLK (in), 35 BCLK (io), 36 WCLK (io), 37 DIN (in), 38 DOUT (out), 39 DVSS (power), 40 IOVDD (power), 41 EPAD
1 alternate drawing of the same symbol

## TOGGLE SW MOM-OFF-MOM
designator SW?  (value not drawn)
TOGGLE SWITCH THROUGH HOLE; Supplier 1: Digi-Key; Supplier Part Number 1: 360-2263-ND
footprint TOGGLE SW MOM-OFF-MOM (MOM-OFF-MOM THROUH HOLE TOGGLE SWITCH)
pins: 1, 2, 3

## TPS61021 BOOST REG SYNC
designator U?, comment TPS6102  (value not drawn)
BOOST REG 3A SYNCHRONOUS 2MHZ; Supplier 1: Digi-Key; Supplier Part Number 1: TPS61021ADSGR-ND
footprint TPS61021 3A BOOST (3A LOW INPUT VOLTAGE BOOST REGULATOR 2MHZ)
pins: 1 AGND, 2 FB, 3 VOUT, 4 VOUT, 5 EN, 6 SW, 7 SW, 8 VIN, PAD

## TWR-PRIMARY-PCIeX16-GF-2D-1000-1K-O164
designator P?, comment PCIeX16-GF-2D-1000-1K-O164  (no BOM)
Golden finger, PCIeX16, Dual, Opposite, Pitch 1mm, 164-Position; ClassName: Edge Connector
footprint TWR-PRIMARY-PCIeX16-GF-2D-1000-1K-O164 (Freescale Tower Module,Golden finger, PCIeX16, Dual, Opposite, Pitch 1mm, 164-Position)
pins: A1 5V_2, A2 GND_9, A3 3V3_4, A4 3V3_5, A5 GND_10, A6 GND_11, A7 SCL0, A8 SDA0, A9 GPIO9/CTS1, A10 GPIO8/SDHC_D2, A11 GPIO7/SD_WP_DET, A12 ETH_CRS, A13 ETH_MDC_1, A14 ETH_MDIO_1, A15 ETH_RXCLK_1, A16 ETH_RXDV_1, A17 ETH_RXD3_1, A18 ETH_RXD2_1, A19 ETH_RXD1_1, A20 ETH_RXD0_1, A21 SSI_MCLK, A22 SSI_BCLK, A23 SSI_FS, A24 SSI_RXD, A25 SSI_TXD, A26 GND_12, A27 AN3, A28 AN2, A29 AN1, A30 AN0, A31 GND_13, A32 DAC0, A33 TMR1, A34 TMR0, A35 GPIO6, A36 3V3_6, A37 PWM3, A38 PWM2, A39 PWM1, A40 PWM0, A41 RXD0, A42 TXD0, A43 RXD1, A44 TXD1, A45 GPIO10, A46 GPIO11, A47 GPIO12, A48 GPIO13, A49 GND_14, A50 GPIO14, A51 GPIO15, A52 GPIO16, A53 GPIO17, A54 USB0_DM, A55 USB0_DP, A56 USB0_ID, A57 USB0_VBUS, A58 TMR7, A59 TMR6, A60 TMR5, A61 TMR4, A62 RSTIN_B, A63 RSTOUT_B, A64 CLKOUT0, A65 GND_15, A66 EBI_AD14, A67 EBI_AD13, A68 EBI_AD12, A69 EBI_AD11, A70 EBI_AD10, A71 EBI_AD9, A72 EBI_AD8, A73 EBI_AD7, A74 EBI_AD6, A75 EBI_AD5, A76 EBI_AD4, A77 EBI_AD3, A78 EBI_AD2, A79 EBI_AD1, A80 EBI_AD0, A81 GND_16, A82 3V3_7, B1 5V_1, B2 GND_1, B3 3V3_1, B4 ELE_PS_SENSE_1, B5 GND_2, B6 GND_3, B7 SPI1_CLK/SDHC_CLK, B8 SPI1_CS1_B/SDHC_D3, B9 SPI1_CS0_B/SDHC_D3, B10 SPI1_MOSI/SDHC_CMD, B11 SPI1_MISO/SDHC_D0, B12 ETH_COL_1, B13 ETH_RXER_1, B14 ETH_TXCLK_1, B15 ETH_TXEN_1, B16 ETH_TXER_1, B17 ETH_TXD3_1, B18 ETH_TXD2_1, B19 ETH_TXD1_1, B20 ETH_TXD0_1, B21 GPIO/RTS1, B22 GPIO/RTS1, B23 GPIO3, B24 CLKIN0, B25 CLKOUT1, B26 GND_4, B27 AN7, B28 AN6, B29 AN5, B30 AN4, B31 GND_5, B32 DAC1, B33 TMR3, B34 TMR2, B35 GPIO4, B36 3V3_2, B37 PWM7, B38 PWM6, B39 PWM5, B40 PWM4, B41 CANRX0, B42 CANTX0, B43 1WIRE, B44 SPI0_MISO, B45 SPI0_MOSI, B46 SPI0_CS0_B, B47 SPI0_CS1_B, B48 SPI0_CLK, B49 GND_6, B50 SCL1, B51 SDA1, B52 GPIO5/SD_CARD_DET, B53 USB0_DP_PDOWN, B54 USB0_DM_PDOWN, B55 IRQ_H, B56 IRQ_G, B57 IRQ_F, B58 IRQ_E, B59 IRQ_D, B60 IRQ_C, B61 IRQ_B, B62 IRQ_A, B63 EBI_ALE/EBI_CS1_B, B64 EBI_CS0_B, B65 GND_7, B66 EBI_AD15, B67 EBI_AD16, B68 EBI_AD17, B69 EBI_AD18, B70 EBI_AD19, B71 EBI_R/W_B, B72 EBI_OE_B, B73 EBI_D7, B74 EBI_D6, B75 EBI_D5, B76 EBI_D4, B77 EBI_D3, B78 EBI_D2, B79 EBI_D1, B80 EBI_D0, B81 GND_8, B82 3V3_3
1 alternate drawing of the same symbol
text: PRIMARY

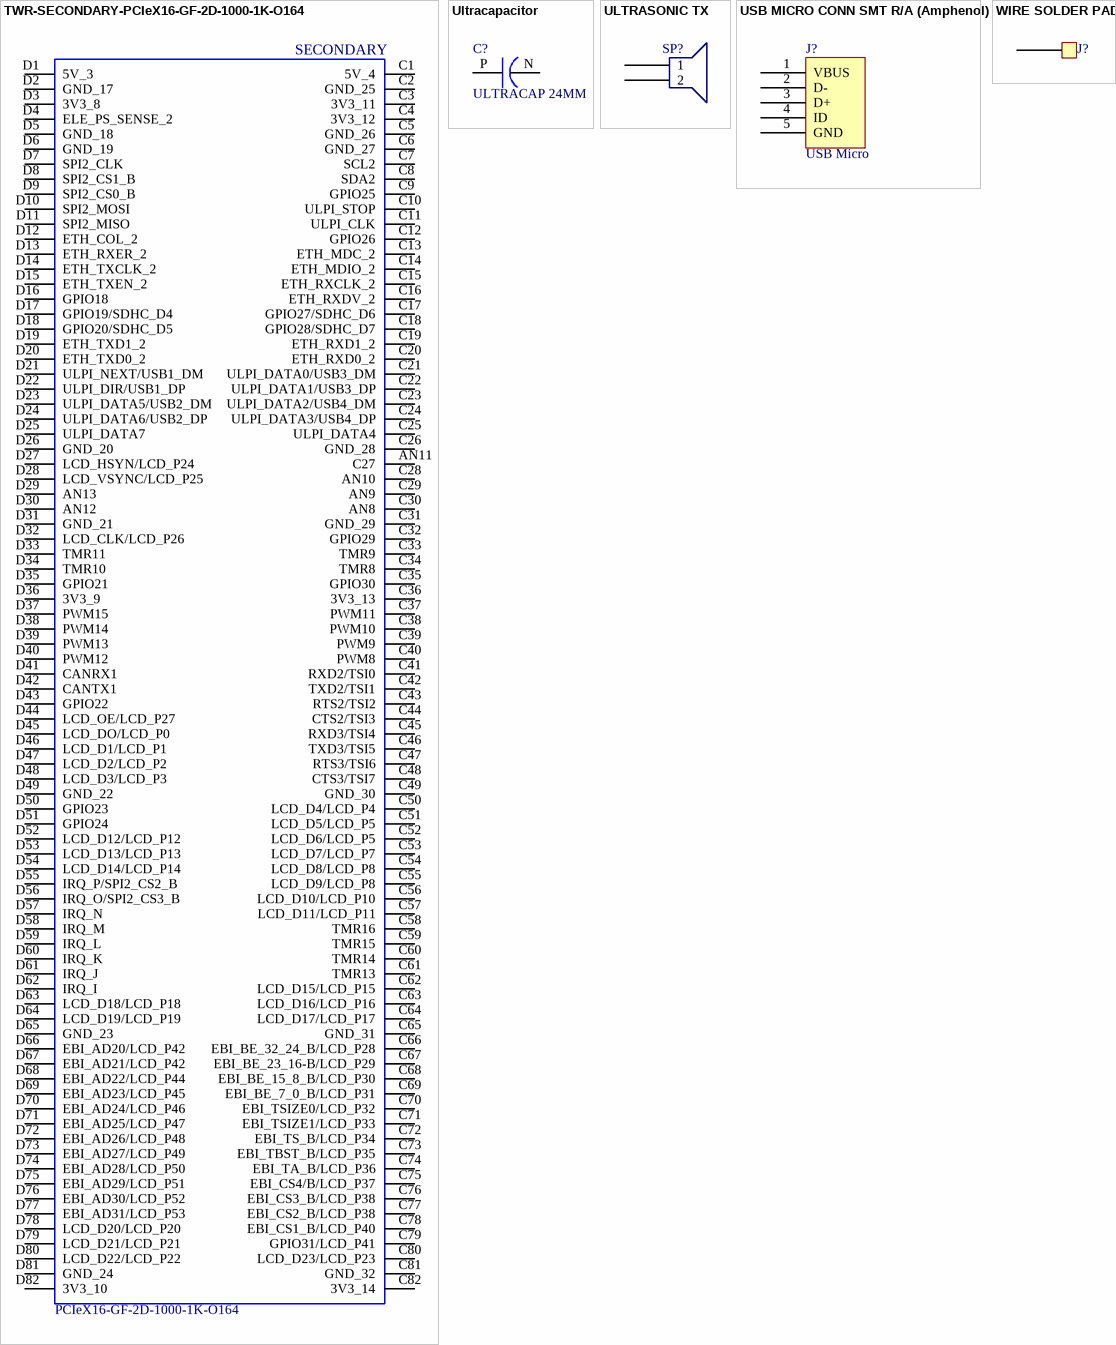
[diagram p3: symbols TWR-SECONDARY-PCIeX16-GF-2D-1000-1K-O164 to WIRE SOLDER PAD]

## TWR-SECONDARY-PCIeX16-GF-2D-1000-1K-O164
designator P?, comment PCIeX16-GF-2D-1000-1K-O164  (no BOM)
Golden finger, PCIeX16, Dual, Opposite, Pitch 1mm, 164-Position; ClassName: Edge Connector
footprint TWR-SECONDARY-PCIeX16-GF-2D-1000-1K-O164 - duplicate (Freescale Tower Module,Golden finger, PCIeX16, Dual, Opposite, Pitch 1mm, 164-Position)
pins: AN11 C27, C1 5V_4, C2 GND_25, C3 3V3_11, C4 3V3_12, C5 GND_26, C6 GND_27, C7 SCL2, C8 SDA2, C9 GPIO25, C10 ULPI_STOP, C11 ULPI_CLK, C12 GPIO26, C13 ETH_MDC_2, C14 ETH_MDIO_2, C15 ETH_RXCLK_2, C16 ETH_RXDV_2, C17 GPIO27/SDHC_D6, C18 GPIO28/SDHC_D7, C19 ETH_RXD1_2, C20 ETH_RXD0_2, C21 ULPI_DATA0/USB3_DM, C22 ULPI_DATA1/USB3_DP, C23 ULPI_DATA2/USB4_DM, C24 ULPI_DATA3/USB4_DP, C25 ULPI_DATA4, C26 GND_28, C28 AN10, C29 AN9, C30 AN8, C31 GND_29, C32 GPIO29, C33 TMR9, C34 TMR8, C35 GPIO30, C36 3V3_13, C37 PWM11, C38 PWM10, C39 PWM9, C40 PWM8, C41 RXD2/TSI0, C42 TXD2/TSI1, C43 RTS2/TSI2, C44 CTS2/TSI3, C45 RXD3/TSI4, C46 TXD3/TSI5, C47 RTS3/TSI6, C48 CTS3/TSI7, C49 GND_30, C50 LCD_D4/LCD_P4, C51 LCD_D5/LCD_P5, C52 LCD_D6/LCD_P5, C53 LCD_D7/LCD_P7, C54 LCD_D8/LCD_P8, C55 LCD_D9/LCD_P8, C56 LCD_D10/LCD_P10, C57 LCD_D11/LCD_P11, C58 TMR16, C59 TMR15, C60 TMR14, C61 TMR13, C62 LCD_D15/LCD_P15, C63 LCD_D16/LCD_P16, C64 LCD_D17/LCD_P17, C65 GND_31, C66 EBI_BE_32_24_B/LCD_P28, C67 EBI_BE_23_16-B/LCD_P29, C68 EBI_BE_15_8_B/LCD_P30, C69 EBI_BE_7_0_B/LCD_P31, C70 EBI_TSIZE0/LCD_P32, C71 EBI_TSIZE1/LCD_P33, C72 EBI_TS_B/LCD_P34, C73 EBI_TBST_B/LCD_P35, C74 EBI_TA_B/LCD_P36, C75 EBI_CS4/B/LCD_P37, C76 EBI_CS3_B/LCD_P38, C77 EBI_CS2_B/LCD_P38, C78 EBI_CS1_B/LCD_P40, C79 GPIO31/LCD_P41, C80 LCD_D23/LCD_P23, C81 GND_32, C82 3V3_14, D1 5V_3, D2 GND_17, D3 3V3_8, D4 ELE_PS_SENSE_2, D5 GND_18, D6 GND_19, D7 SPI2_CLK, D8 SPI2_CS1_B, D9 SPI2_CS0_B, D10 SPI2_MOSI, D11 SPI2_MISO, D12 ETH_COL_2, D13 ETH_RXER_2, D14 ETH_TXCLK_2, D15 ETH_TXEN_2, D16 GPIO18, D17 GPIO19/SDHC_D4, D18 GPIO20/SDHC_D5, D19 ETH_TXD1_2, D20 ETH_TXD0_2, D21 ULPI_NEXT/USB1_DM, D22 ULPI_DIR/USB1_DP, D23 ULPI_DATA5/USB2_DM, D24 ULPI_DATA6/USB2_DP, D25 ULPI_DATA7, D26 GND_20, D27 LCD_HSYN/LCD_P24, D28 LCD_VSYNC/LCD_P25, D29 AN13, D30 AN12, D31 GND_21, D32 LCD_CLK/LCD_P26, D33 TMR11, D34 TMR10, D35 GPIO21, D36 3V3_9, D37 PWM15, D38 PWM14, D39 PWM13, D40 PWM12, D41 CANRX1, D42 CANTX1, D43 GPIO22, D44 LCD_OE/LCD_P27, D45 LCD_DO/LCD_P0, D46 LCD_D1/LCD_P1, D47 LCD_D2/LCD_P2, D48 LCD_D3/LCD_P3, D49 GND_22, D50 GPIO23, D51 GPIO24, D52 LCD_D12/LCD_P12, D53 LCD_D13/LCD_P13, D54 LCD_D14/LCD_P14, D55 IRQ_P/SPI2_CS2_B, D56 IRQ_O/SPI2_CS3_B, D57 IRQ_N, D58 IRQ_M, D59 IRQ_L, D60 IRQ_K, D61 IRQ_J, D62 IRQ_I, D63 LCD_D18/LCD_P18, D64 LCD_D19/LCD_P19, D65 GND_23, D66 EBI_AD20/LCD_P42, D67 EBI_AD21/LCD_P42, D68 EBI_AD22/LCD_P44, D69 EBI_AD23/LCD_P45, D70 EBI_AD24/LCD_P46, D71 EBI_AD25/LCD_P47, D72 EBI_AD26/LCD_P48, D73 EBI_AD27/LCD_P49, D74 EBI_AD28/LCD_P50, D75 EBI_AD29/LCD_P51, D76 EBI_AD30/LCD_P52, D77 EBI_AD31/LCD_P53, D78 LCD_D20/LCD_P20, D79 LCD_D21/LCD_P21, D80 LCD_D22/LCD_P22, D81 GND_24, D82 3V3_10
1 alternate drawing of the same symbol
text: SECONDARY

## Ultracapacitor
designator C?, comment ULTRACAP 24MM
4F 5.5V ultracapacitor
footprint UltraCap (24MM SPACING ULTRACAPACITOR)
pins: N NEG, P POS

## ULTRASONIC TX
designator SP?, comment Ultrasonic TX  (value not drawn)
25 khz
footprint ULTRASONIC TX (25khz ultrasonic transmitter)
pins: 1, 2

## USB MICRO CONN SMT R/A (Amphenol)
designator J?, comment USB Micro
Micro USB R/A SMT CONNECTOR; Supplier 1: Digi-Key; Supplier Part Number 1: 609-4618-1-ND
footprint USB_CONN (MicroUSB SMT R/A)
pins: 1 VBUS, 2 D-, 3 D+, 4 ID, 5 GND

## WIRE SOLDER PAD
designator J?  (value not drawn)
footprint WIRE_PAD (STANDARD 100X40 MIL WIRE SOLDER PAD)
pins: 1